# Altium schematic symbol library BL8095.A1.SchLib: 1 symbol
Pins are listed as number, name and electrical type; pins without a type are passive.

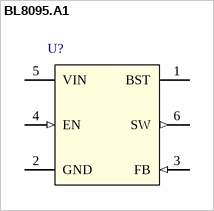
[diagram p0: symbol BL8095.A1]

## BL8095.A1
designator U?
pins: 1 BST, 2 GND, 3 FB (in), 4 EN (in), 5 VIN (power), 6 SW (out)